# Altium schematic symbol library 20021111-00008T4LF.SchLib: 1 symbol
Pins are listed as number, name and electrical type; pins without a type are passive.

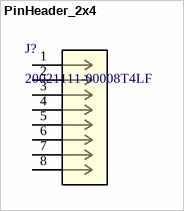
[diagram p0: symbol PinHeader_2x4]

## PinHeader_2x4
designator J?, comment 20021111-00008T4LF
No Description Available; Manufacturer_Name: Amphenol ICC; Copyright: Copyright (C) 2026 Ultra Librarian. All rights reserved.; Manufacturer_Part_Number: 20021111-00008T4LF; RefDes: RefDes; Type: Type
footprint CONN_20021111-00008T4LF_AMP
pins: 1, 2, 3, 4, 5, 6, 7, 8